# EAGLE library part 739-309/100-000/001-000 (library con-wago_739)
Serie 739, Klemmenleiste für Leiterplatten 1 Einpressstift/Pol / Series 739, PCB terminal strip 1 press-in pin/pole Polzahl / Pole No.: 9 Bemessungsspannung / Rated Voltage: 160 V Nennstrom / Nominal Current: 4 A Leiterquerschnitt / Conductor Size: 0.08 - 1.5 mm² Anschlusstechnik / Connection Technology: CAGE CLAMP® Leitereinführung (zur Platine) / Conductor entry angle (to PCB): 90 ° Farbe / Color: xxxx / xxxx Stand: 01.01.2012. Die jeweils aktuellen Daten zu diesem Artikel finden Sie in unserem Produktkatalog, den Sie unter www.wago.com einsehen können. As of: 01/01/2012. Please find the newest data for this article in our product catalogue, which can be viewed under www.wago.com.
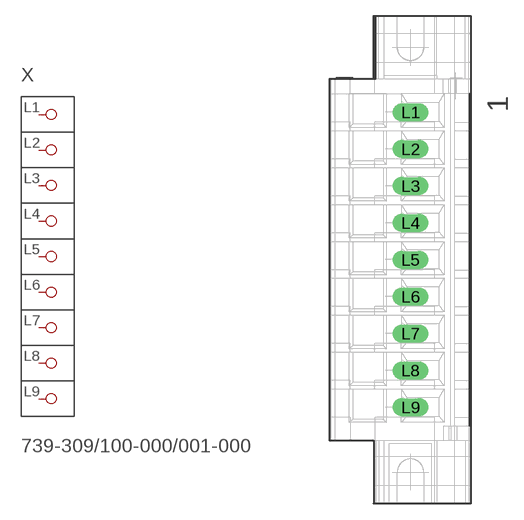
[diagram p9: symbol with the pads of P-739-309/100-000/001-000; footprint P-739-309/100-000/001-000]

Designator prefix X

## 739-309/100-000/001-000  [P-739-309/100-000/001-000]
L1  P1
L2  P2
L3  P3
L4  P4
L5  P5
L6  P6
L7  P7
L8  P8
L9  P9

## Footprint P-739-309/100-000/001-000 (pad centres in mm)
drill 1.15 long: L1 1,14; L2 1,10.5; L3 1,7; L4 1,3.5; L5 1,0; L6 1,-3.5; L7 1,-7; L8 1,-10.5; L9 1,-14